# Altium integrated library Diode.IntLib: 14 symbols
Pins are listed as number, name and electrical type; pins without a type are passive.

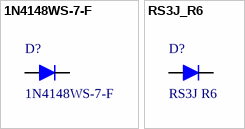
[diagram p0: symbols 1N4148WS-7-F to RS3J_R6]

## 1N4148WS-7-F
designator D?
DIODE GEN PURP 75V 150MA SOD323; Manufacturer: Diodes Incorporated; Type: Standard; Supplier 1: Farnell; Manufacturer Part Number: 1N4148WS-7-F; ComponentLink1URL: http://www.farnell.com/datasheets/2238477.pdf; ComponentLink1Description: Datasheet; Supplier Part Number 1: 1843678; ComponentLink2Description: Manufacturer; ComponentLink2URL: http://diodes.com/catalog/switching_diodes_5/1n4148wsf.html; ContinuousForwardCurrent: 150mA; Value: 75V; Supplier Footprint 2: SOD-323F; Supplier Part Number 2: C2128; Supplier 2: JLCPCB
footprint SOD-323 (SOD-323/SC-76; 2 Leads; Body 1.7 x 1.3 mm, (LxW))
pins: 1 "A", 2 "K"

## RS3J_R6
designator D?, comment RS3J R6
DIODE GEN PURP 600V 3A SMC; Manufacturer: TAIWAN SEMICONDUCTOR; Type: Standard; Manufacturer Part Number: RS3J R6; ContinuousForwardCurrent: 3A; Supplier 1: Farnell; Supplier Part Number 1: 2677388; ComponentLink1Description: Datasheet; ComponentLink1URL: http://www.farnell.com/datasheets/2182655.pdf; Value: 600V
footprint SMC, DO-214AB (WE-TVSP Power TVS Diode, DO-214AB, Unidirectional)
pins: 1 "A", 2 "K"


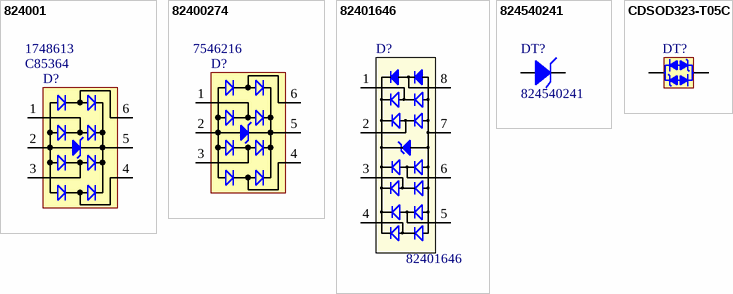
[diagram p1: symbols 824001 to CDSOD323-T05C]

## 824001
designator D?  Supplier Part Number 2: C85364  Supplier Part Number 1: 1748613  (hidden comment: 824001)
WE-TVS TVS Diode 4+1Ch 5V SOT23-6L; Manufacturer: Wurth Elektronik; Manufacturer Part Number: 824001; Type: TVS; Value: 5V; Supplier Footprint 2: SOT-23-6L; ComponentLink1Description: Datasheet; ComponentLink1URL: https://www.we-online.com/catalog/datasheet/824001.pdf; Supplier 2: JLCPCB; Supplier 1: Farnell
footprint SOT-23-6L
pins: 1, 2, 3, 4, 5, 6

## 82400274
designator D?  Supplier Part Number 1: 7546216  (hidden comment: 82400274)
WE-TVS TVS Diode 4+1Ch 5V SC70-6L; Manufacturer: Wurth Elektronik; ComponentLink1Description: Datasheet; ComponentLink1URL: https://www.we-online.com/catalog/datasheet/82400274.pdf; Manufacturer Part Number: 82400274; Type: TVS; Value: 5V; Supplier Footprint 2: SOT-23-6L; Supplier 1: RSComponents
footprint SC70-6L (TVS Diode, package SC70-6L)
pins: 1, 2, 3, 4, 5, 6

## 82401646
designator D?
TVS DIODE 5VWM 13VC 8MSOP; Manufacturer: Wurth Electronics Inc.; Value: 5V; Supplier 1: Farnell; Manufacturer Part Number: 82401646; ComponentLink1URL: https://www.we-online.com/catalog/datasheet/82401646.pdf; ComponentLink1Description: Datasheet; Supplier Part Number 1: 1825864; Type: TVS
footprint MSOP-8L (MSOP-8L, 8-Leads, Body 5x3mm, Pitch 0.5mm)
pins: 1 "I/O1", 2 "I/O2", 3 "I/O3", 4 "I/O4", 5 "I/O5", 6 "I/O6", 7 "GND", 8 "VDD"

## 824540241
designator DT?
WE-TVSP Power TVS Diode, Unidirectional, 1500 W, 24 VDC; Manufacturer: Wurth Electronics Inc.; Value: 24V; Supplier 1: Farnell; Supplier Part Number 1: 2536699; Manufacturer Part Number: 824540241; ComponentLink1URL: https://www.we-online.com/catalog/datasheet/824540241.pdf; ComponentLink1Description: Datasheet; Type: TVS
footprint SMC, DO-214AB (WE-TVSP Power TVS Diode, DO-214AB, Unidirectional)
pins: 1, 2

## CDSOD323-T05C
designator DT?  (value not drawn)
TVS DIODE 5VWM 18.3VC SOD323; Manufacturer: Bourns Inc.; Value: 5V; ComponentLink1Description: Datasheet; ComponentLink1URL: http://www.farnell.com/datasheets/1845299.pdf; ComponentLink2Description: Manufacturer; ComponentLink2URL: http://www.bourns.com/datasheet-search?PART=CDSOD323-T05C&ST=BeginsWith; Supplier 1: Farnell; Supplier Part Number 1: 1824860; Type: TVS; Manufacturer Part Number: CDSOD323-T05C
footprint SOD-323
pins: 1 "1", 2 "2"


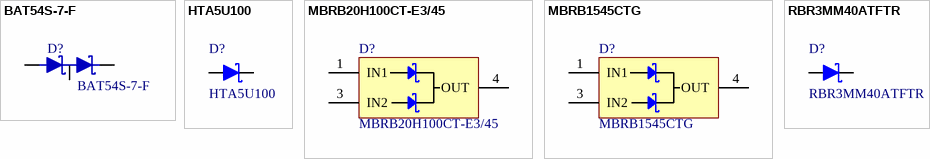
[diagram p2: symbols BAT54S-7-F to RBR3MM40ATFTR]

## BAT54S-7-F
designator D?
DIODE ARRAY SCHOTTKY 30V 220mA SOT23-3; Manufacturer: Diodes Incorporated; ContinuousForwardCurrent: 200mA; Supplier 1: Farnell; Supplier Part Number 1: 9526510; Manufacturer Part Number: BAT54S-7-F; ComponentLink1URL: https://www.diodes.com/assets/Datasheets/ds11005.pdf; ComponentLink1Description: Datasheet; Type: Schottky; Value: 30V
footprint SOT-23
pins: 1 "A", 2 "K", 3

## HTA5U100
designator D?
DIODE SCHOTTKY 100V 5A SMA (DO-214AC); Manufacturer: MULTICOMP; ContinuousForwardCurrent: 5A (Pk 50A); Supplier 1: Farnell; Manufacturer Part Number: HTA5U100; ComponentLink1URL: http://www.farnell.com/datasheets/2282884.pdf; ComponentLink1Description: Datasheet; Supplier Part Number 1: 2750942; Type: Schottky; Value: 100V
footprint SMA, DO-214AC (Case 403D-02)
pins: 1 "A", 2 "K"

## MBRB20H100CT-E3/45
designator D?
DIODE ARRAY SCHOTTKY 100V 20A D2PAK; Manufacturer: VISHAY; Supplier 1: Farnell; Supplier Part Number 1: 1859694; ComponentLink1Description: Datasheet; ComponentLink1URL: http://www.vishay.com/docs/88673/mbr20ct.pdf; Manufacturer Part Number: MBRB20H100CT-E3/45; ContinuousForwardCurrent: 20A; Type: Schottky; Value: 100V
footprint TO263AB, D2PAK
pins: 1 IN1 (power), 3 IN2 (power), 4 OUT (power)

## MBRB1545CTG
designator D?
DIODE ARRAY SCHOTTKY 45V 15A D2PAK; Manufacturer: ON Semiconductor; Supplier 1: Farnell; Manufacturer Part Number: MBRB1545CTG; ComponentLink1URL: http://www.onsemi.com/pub_link/Collateral/MBRB1545CT-D.PDF; ComponentLink1Description: Datasheet; Supplier Part Number 1: 1431082; ContinuousForwardCurrent: 15A; Type: Schottky; Value: 45V
footprint TO263AB, D2PAK
pins: 1 IN1 (power), 3 IN2 (power), 4 OUT (power)

## RBR3MM40ATFTR
designator D?
DIODE SCHOTTKY 40V 3A SOD123-FL; Manufacturer: ROHM; Supplier 1: Farnell; Manufacturer Part Number: RBR3MM40ATFTR; ComponentLink1URL: http://www.farnell.com/datasheets/2067190.pdf; ComponentLink1Description: Datasheet; Supplier Part Number 1: 2581593; ComponentLink2Description: Manufacturer; ComponentLink2URL: http://www.rohm.com/web/global/products/-/product/RBR3MM40ATF; ContinuousForwardCurrent: 3A; Type: Schottky; Supplier 2: JLCPCB; Supplier Part Number 2: C8598; Value: 40V; Supplier Footprint 2: SOD-123
footprint SOD-123FL
pins: 1 "A", 2 "K"


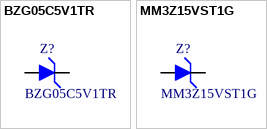
[diagram p3: symbols BZG05C5V1TR to MM3Z15VST1G]

## BZG05C5V1TR
designator Z?
DIODE ZENER 5.1V 1.25W DO214AC; Manufacturer: Vishay Semiconductor; Supplier 1: Farnell; Supplier Part Number 1: 5215973; Manufacturer Part Number: BZG05C5V1TR; ComponentLink1URL: http://www.vishay.com/docs/85893/bzg05c.pdf; ComponentLink1Description: Datasheet; Value: 5.1V; Type: Zener
footprint SMA, DO-214AC (Case 403D-02)
pins: 1 "A", 2 "K"

## MM3Z15VST1G
designator Z?
DIODE ZENER 14.6V 300mW SOD323; Manufacturer: ON Semiconductor; Manufacturer Part Number: MM3Z15VST1G; ComponentLink1URL: http://www.farnell.com/datasheets/2028649.pdf; ComponentLink1Description: Datasheet; Value: 14.6V; Supplier 1: Farnell; Supplier Part Number 1: 2533369; Type: Zener
footprint SOD-323 (SOD-323/SC-76; 2 Leads; Body 1.7 x 1.3 mm, (LxW))
pins: 1 "A", 2 "K"